# Altium schematic symbol library L_2P.SchLib: 1 symbol
Pins are listed as number, name and electrical type; pins without a type are passive.

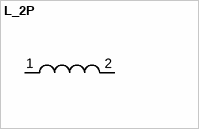
[diagram p0: symbol L_2P]

## L_2P
designator L?
pins: 1, 2